# Altium integrated library Analog Devices Data Converters Digital-to-Analog Converters.IntLib: 2231 symbols (part 139 of 181)
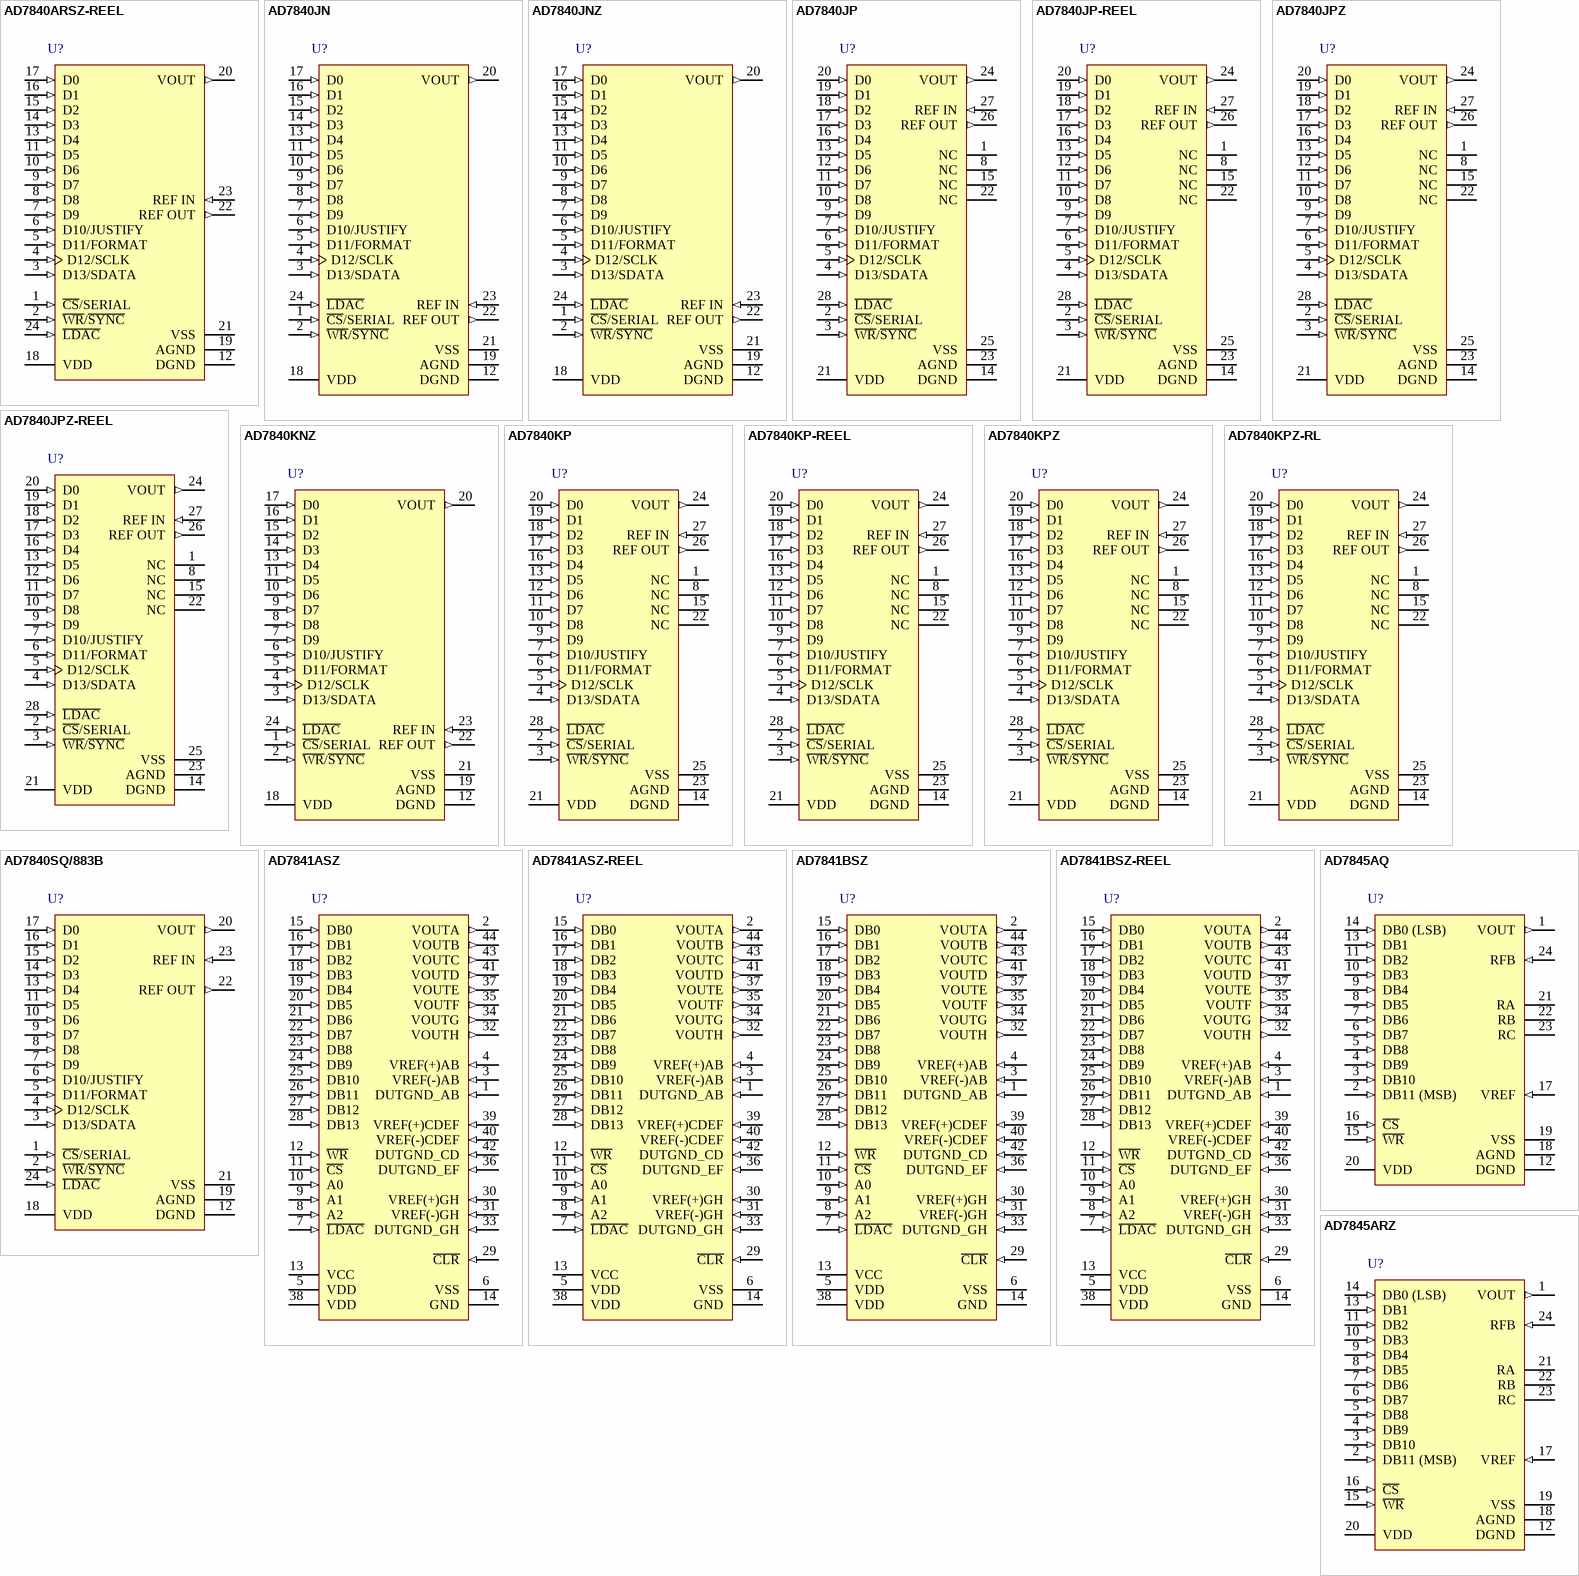
[diagram p252: symbols AD7840ARSZ-REEL to AD7845ARZ]

## AD7840KPZ-RL
designator U?
Single 14-Bit LC2MOS Complete Digital-to-Analog Converter, 0 to +70 degC, P-28, Pb-Free, Reel; Generic Part Number: AD7840; Manufacturer: Analog Devices; PartNumber: AD7840KPZ-RL; # DAC Outputs: 1; Max V+: 5.25V; Op Pwr Diss: 110mW; Resolution (Bits): 14; Settling Time: 2.5µs; Single Supply: No; DatasheetVersion: Rev.B; PackageVersion: 042508-A; PackageReference: P-28; PackageDescription: 28-Lead Plastic Leaded Chip Carrier [PLCC]; Supplier 1: Mouser; Supplier Part Number 1: N/A; Packing: Reel; RoHS: Y; Mounting Technology: Surface Mount; Code_JEDEC: MO-047-AB; ComponentLink1Description: Manufacturer URL; ComponentLink1URL: http://www.analog.com/en/index.html; ComponentLink2Description: Datasheet; ComponentLink2URL: http://www.analog.com/static/imported-files/data_sheets/AD7840.pdf; ComponentLink3Description: Package Specification; ComponentLink3URL: http://www.analog.com/static/imported-files/packages/PKG_PDF/PLCC(P)/P_28.pdf; ComponentLink4Description: Product URL; ComponentLink4URL: http://www.analog.com/en/digital-to-analog-converters/da-converters/ad7840/products/product.html
footprint P-28_N (Leaded Chip Carrier, 28-Leads, Body 11.5x11.5mm, Pitch 1.27mm, IPC Medium Density)
footprint P-28_L (Leaded Chip Carrier, 28-Leads, Body 11.5x11.5mm, Pitch 1.27mm, IPC High Density)
footprint P-28_M (Leaded Chip Carrier, 28-Leads, Body 11.5x11.5mm, Pitch 1.27mm, IPC Low Density)
pins: 1 NC "No Connect.", 2 ~{CS}/SERIAL (in) "Chip Select/Serial Input. When driven with normal logic levels, it is an active low logic input which is used in conjunction with W\R\ to load parallel data to the input latch. For applications where C\S\ is permanently low, (See Datasheet)", 3 ~{WR}/~{SYNC} (in) "Write/Frame Synchronization Input. In the parallel data mode, it is used in conjunction with C\S\ to load parallel data. In the serial mode of operation, this pin functions as a Frame Synchronization pulse with serial data (See Datasheet)", 4 D13/SDATA (in) "Data Bit 13(MSB)/Serial Data. When parallel data is selected, this pin is the D13 input. In serial mode, SDATA is the serial data input which is used in conjunction with S\Y\N\C\ and SCLK to transfer serial data to the (See Datasheet)", 5 D12/SCLK (in) "Data Bit 12/Serial Clock. When parallel data is selected, this pin is the D12 input. In the serial mode, it is the serial clock input. Serial data bits are latched on the falling edge of SCLK when S\Y\N\C\ is low", 6 D11/FORMAT (in) "Data Bit 11/Data Format. When parallel data is selected, this pin is the D11 input. In serial mode, a Logic 1 on this input indicates that the MSB is the first valid bit in the serial data stream. A Logic 0 indicates that (See Datasheet)", 7 D10/JUSTIFY (in) "Data Bit 10/Data Justification. When parallel data is selected, this pin is the D10 input. In serial mode, this input controls the serial data justification (see Table I).", 8 NC "No Connect.", 9 D9 (in) "Data Bit 9. Parallel data input.", 10 D8 (in) "Data Bit 8. Parallel data input.", 11 D7 (in) "Data Bit 7. Parallel data input.", 12 D6 (in) "Data Bit 6. Parallel data input.", 13 D5 (in) "Data Bit 5. Parallel data input.", 14 DGND (power) "Digital Ground. Ground reference for digital circuitry.", 15 NC "No Connect.", 16 D4 (in) "Data Bit 4. Parallel data input.", 17 D3 (in) "Data Bit 3. Parallel data input.", 18 D2 (in) "Data Bit 2. Parallel data input.", 19 D1 (in) "Data Bit 1. Parallel data input.", 20 D0 (in) "Data Bit 0 (LSB). Parallel data input.", 21 VDD (power) "Positive Supply, +5 V +/- 5%.", 22 NC "No Connect.", 23 AGND (power) "Analog Ground. Ground reference for DAC, reference and output buffer amplifier.", 24 VOUT (out) "Analog Output Voltage. This is the buffer amplifier output voltage. Bipolar output range (+/-3 V with REF IN = +3 V).", 25 VSS (power) "Negative Supply Voltage, -5 V +/- 5%.", 26 REF OUT (out) "Voltage Reference Output. The internal 3 V analog reference is provided at this pin. To operate the AD7840 with internal reference, REF OUT should be connected to REF IN. The external load capability of the reference is 500 (See Datasheet)", 27 REF IN (in) "Voltage Reference Input. The reference voltage for the DAC is applied to this pin. It is internally buffered before being applied to the DAC. The nominal reference voltage for correct operation of the AD7840 is 3 V.", 28 ~{LDAC} (in) "Load DAC. Logic Input. A new word is loaded into the DAC latch from the input latch on the falling edge of this signal (see Interface Logic Information section). The AD7840 should be powered-up with L\D\A\C\ high. For (See Datasheet)"

## AD7840SQ/883B
designator U?
Single 14-Bit LC2MOS Complete Digital-to-Analog Converter, -55 to +125 degC, Q-24-2, Tube; Generic Part Number: AD7840; Manufacturer: Analog Devices; PartNumber: AD7840SQ/883B; # DAC Outputs: 1; Max V+: 5.25V; Op Pwr Diss: 110mW; Resolution (Bits): 14; Settling Time: 2.5µs; Single Supply: No; DatasheetVersion: Rev.B; PackageVersion: 081908-A; PackageReference: Q-24-2; PackageDescription: 24-Lead Ceramic Dual In-Line Package [CERDIP] Wide Body; Supplier 1: Mouser; Supplier Part Number 1: 584-AD7840SQ883B; Packing: Tube; RoHS: N; Mounting Technology: Through Hole; ComponentLink1Description: Manufacturer URL; ComponentLink1URL: http://www.analog.com/en/index.html; ComponentLink2Description: Datasheet; ComponentLink2URL: http://www.analog.com/static/imported-files/data_sheets/AD7840.pdf; ComponentLink3Description: Package Specification; ComponentLink3URL: http://www.analog.com/static/imported-files/packages/PKG_PDF/CERDIP(Q)/Q_24_2.pdf; ComponentLink4Description: Product URL; ComponentLink4URL: http://www.analog.com/en/digital-to-analog-converters/da-converters/ad7840/products/product.html
footprint Q-24-2 (DIP, 24-Leads, Row Spacing 15.24mm, Pitch 2.54mm, Body 31.9x14.5mm)
pins: 1 ~{CS}/SERIAL (in) "Chip Select/Serial Input. When driven with normal logic levels, it is an active low logic input which is used in conjunction with W\R\ to load parallel data to the input latch. For applications where C\S\ is permanently low, (See Datasheet)", 2 ~{WR}/~{SYNC} (in) "Write/Frame Synchronization Input. In the parallel data mode, it is used in conjunction with C\S\ to load parallel data. In the serial mode of operation, this pin functions as a Frame Synchronization pulse with serial data (See Datasheet)", 3 D13/SDATA (in) "Data Bit 13(MSB)/Serial Data. When parallel data is selected, this pin is the D13 input. In serial mode, SDATA is the serial data input which is used in conjunction with S\Y\N\C\ and SCLK to transfer serial data to the (See Datasheet)", 4 D12/SCLK (in) "Data Bit 12/Serial Clock. When parallel data is selected, this pin is the D12 input. In the serial mode, it is the serial clock input. Serial data bits are latched on the falling edge of SCLK when S\Y\N\C\ is low.", 5 D11/FORMAT (in) "Data Bit 11/Data Format. When parallel data is selected, this pin is the D11 input. In serial mode, a Logic 1 on this input indicates that the MSB is the first valid bit in the serial data stream. A Logic 0 indicates that (See Datasheet)", 6 D10/JUSTIFY (in) "Data Bit 10/Data Justification. When parallel data is selected, this pin is the D10 input. In serial mode, this input controls the serial data justification (see Table I).", 7 D9 (in) "Data Bit 9. Parallel Data Input.", 8 D8 (in) "Data Bit 8. Parallel Data Input.", 9 D7 (in) "Data Bit 7. Parallel Data Input.", 10 D6 (in) "Data Bit 6. Parallel Data Input.", 11 D5 (in) "Data Bit 5. Parallel Data Input.", 12 DGND (power) "Digital Ground. Ground reference for digital circuitry.", 13 D4 (in) "Data Bit 4. Parallel Data Input.", 14 D3 (in) "Data Bit 3. Parallel Data Input.", 15 D2 (in) "Data Bit 2. Parallel Data Input.", 16 D1 (in) "Data Bit 1. Parallel Data Input.", 17 D0 (in) "Data Bit 0 (LSB). Parallel data input.", 18 VDD (power) "Positive Supply, +5 V +/- 5%.", 19 AGND (power) "Analog Ground. Ground reference for DAC, reference and output buffer amplifier.", 20 VOUT (out) "Analog Output Voltage. This is the buffer amplifier output voltage. Bipolar output range (+/-3 V with REF IN = +3 V).", 21 VSS (power) "Negative Supply Voltage, -5 V +/- 5%.", 22 REF OUT (out) "Voltage Reference Output. The internal 3 V analog reference is provided at this pin. To operate the AD7840 with internal reference, REF OUT should be connected to REF IN. The external load capability of the reference is 500 (See Datasheet)", 23 REF IN (in) "Voltage Reference Input. The reference voltage for the DAC is applied to this pin. It is internally buffered before being applied to the DAC. The nominal reference voltage for correct operation of the AD7840 is 3 V.", 24 ~{LDAC} (in) "Load DAC. Logic Input. A new word is loaded into the DAC latch from the input latch on the falling edge of this signal (see Interface Logic Information section). The AD7840 should be powered-up with L\D\A\C\ high. For (See Datasheet)"

## AD7841ASZ
designator U?
Octal 14-Bit Digital-to-Analog Converter with Parallel Interface, -40 to +85 degC, S-44-2, Pb-Free, Tray; Generic Part Number: AD7841; Manufacturer: Analog Devices; PartNumber: AD7841ASZ; # DAC Outputs: 8; Max V+: 16.5V; Op Pwr Diss: 303mW; Resolution (Bits): 14; Settling Time: 31µs; Single Supply: No; DatasheetVersion: Rev.B; PackageVersion: 041807-A; PackageReference: S-44-2; PackageDescription: 44-Lead Metric Quad Flat Package [MQFP]; Supplier 1: Digi-Key; Supplier Part Number 1: AD7841ASZ-ND; Supplier 2: Newark; Supplier Part Number 2: 59K5638; Supplier 3: Mouser; Supplier Part Number 3: 584-AD7841ASZ; Packing: Tray; RoHS: Y; Mounting Technology: Surface Mount; Code_JEDEC: MO-122-AA-1; ComponentLink1Description: Manufacturer URL; ComponentLink1URL: http://www.analog.com/en/index.html; ComponentLink2Description: Datasheet; ComponentLink2URL: http://www.analog.com/static/imported-files/data_sheets/AD7841.pdf; ComponentLink3Description: Package Specification; ComponentLink3URL: http://www.analog.com/static/imported-files/packages/209183S_44_2.pdf; ComponentLink4Description: Product URL; ComponentLink4URL: http://www.analog.com/en/digital-to-analog-converters/da-converters/ad7841/products/product.html
footprint S-44-2_N (QFP, 44-Leads, Body 10x10mm, Pitch 0.8mm, IPC Medium Density)
footprint S-44-2_L (QFP, 44-Leads, Body 10x10mm, Pitch 0.8mm, IPC High Density)
footprint S-44-2_M (QFP, 44-Leads, Body 10x10mm, Pitch 0.8mm, IPC Low Density)
pins: 1 DUTGND_AB (in) "Device Sense Ground for DACs A and B. VOUTA and VOUTB are referenced to the voltage applied to this pin.", 2 VOUTA (out) "DAC Output.", 3 VREF(-)AB (in) "Reference Inputs for DACs A and B. These reference voltages are referred to GND.", 4 VREF(+)AB (in) "Reference Inputs for DACs A and B. These reference voltages are referred to GND.", 5 VDD (power) "Positive Analog Power Supply; +15 V +/- 10% for specified performance.", 6 VSS (power) "Negative Analog Power Supply; -15 V +/- 10% for specified performance.", 7 ~{LDAC} (in) "Load DAC Logic Input (active low). When this logic input is taken low the contents of the registers are transferred to their respective DAC registers. L\D\A\C\ can be tied permanently low enabling the outputs to be updated (See Datasheet)", 8 A2 (in) "Address input. A0, A1 and A2 are decoded to select one of the eight input registers for a data transfer.", 9 A1 (in) "Address input. A0, A1 and A2 are decoded to select one of the eight input registers for a data transfer.", 10 A0 (in) "Address input. A0, A1 and A2 are decoded to select one of the eight input registers for a data transfer.", 11 ~{CS} (in) "Level-Triggered Chip Select Input (active low). The device is selected when this input is low.", 12 ~{WR} (in) "Level-Triggered Write Input (active low), used in conjunction with C\S\ to write data to the AD7841 data registers. Data is latched into the selected input register on the rising edge of W\R\.", 13 VCC (power) "Logic Power Supply; 5 V +/- 5%.", 14 GND (power) "Ground.", 15 DB0 (in) "Parallel Data Input. The AD7841 can accept a straight 14-bit parallel word on DB0 to DB13 where DB13 is the MSB and DB0 is the LSB.", 16 DB1 (in) "Parallel Data Input. The AD7841 can accept a straight 14-bit parallel word on DB0 to DB13 where DB13 is the MSB and DB0 is the LSB.", 17 DB2 (in) "Parallel Data Input. The AD7841 can accept a straight 14-bit parallel word on DB0 to DB13 where DB13 is the MSB and DB0 is the LSB.", 18 DB3 (in) "Parallel Data Input. The AD7841 can accept a straight 14-bit parallel word on DB0 to DB13 where DB13 is the MSB and DB0 is the LSB.", 19 DB4 (in) "Parallel Data Input. The AD7841 can accept a straight 14-bit parallel word on DB0 to DB13 where DB13 is the MSB and DB0 is the LSB.", 20 DB5 (in) "Parallel Data Input. The AD7841 can accept a straight 14-bit parallel word on DB0 to DB13 where DB13 is the MSB and DB0 is the LSB.", 21 DB6 (in) "Parallel Data Input. The AD7841 can accept a straight 14-bit parallel word on DB0 to DB13 where DB13 is the MSB and DB0 is the LSB.", 22 DB7 (in) "Parallel Data Input. The AD7841 can accept a straight 14-bit parallel word on DB0 to DB13 where DB13 is the MSB and DB0 is the LSB.", 23 DB8 (in) "Parallel Data Input. The AD7841 can accept a straight 14-bit parallel word on DB0 to DB13 where DB13 is the MSB and DB0 is the LSB.", 24 DB9 (in) "Parallel Data Input. The AD7841 can accept a straight 14-bit parallel word on DB0 to DB13 where DB13 is the MSB and DB0 is the LSB.", 25 DB10 (in) "Parallel Data Input. The AD7841 can accept a straight 14-bit parallel word on DB0 to DB13 where DB13 is the MSB and DB0 is the LSB.", 26 DB11 (in) "Parallel Data Input. The AD7841 can accept a straight 14-bit parallel word on DB0 to DB13 where DB13 is the MSB and DB0 is the LSB.", 27 DB12 (in) "Parallel Data Input. The AD7841 can accept a straight 14-bit parallel word on DB0 to DB13 where DB13 is the MSB and DB0 is the LSB.", 28 DB13 (in) "Parallel Data Input. The AD7841 can accept a straight 14-bit parallel word on DB0 to DB13 where DB13 is the MSB and DB0 is the LSB.", 29 ~{CLR} (in) "Asynchronous Clear Input (level sensitive, active low). When this input is low, all analog outputs are switched to the externally set potential on the relevant DUTGND pin. The contents of input registers and DAC registers A (See Datasheet)", 30 VREF(+)GH (in) "Reference Inputs for DACs G and H. These reference voltages are referred to GND.", 31 VREF(-)GH (in) "Reference Inputs for DACs G and H. These reference voltages are referred to GND.", 32 VOUTH (out) "DAC Output.", 33 DUTGND_GH (in) "Device Sense Ground for DACs E and F. VOUTE and VOUTF are referenced to the voltage applied to this pin.", 34 VOUTG (out) "DAC Output.", 35 VOUTF (out) "DAC Output.", 36 DUTGND_EF (in) "Device Sense Ground for DACs E and F. VOUTE and VOUTF are referenced to the voltage applied to this pin.", 37 VOUTE (out) "DAC Output.", 38 VDD (power) "Positive Analog Power Supply; +15 V +/- 10% for specified performance.", 39 VREF(+)CDEF (in) "Reference Inputs for DACs C, D, E and F. These reference voltages are referred to GND.", 40 VREF(-)CDEF (in) "Reference Inputs for DACs C, D, E and F. These reference voltages are referred to GND.", 41 VOUTD (out) "DAC Output.", 42 DUTGND_CD (in) "Device Sense Ground for DACs C and D. VOUTC and VOUTD are referenced to the voltage applied to this pin.", 43 VOUTC (out) "DAC Output.", 44 VOUTB (out) "DAC Output."

## AD7841ASZ-REEL
designator U?
Octal 14-Bit Digital-to-Analog Converter with Parallel Interface, -40 to +85 degC, S-44-2, Pb-Free, Reel; Generic Part Number: AD7841; Manufacturer: Analog Devices; PartNumber: AD7841ASZ-REEL; # DAC Outputs: 8; Max V+: 16.5V; Op Pwr Diss: 303mW; Resolution (Bits): 14; Settling Time: 31µs; Single Supply: No; DatasheetVersion: Rev.B; PackageVersion: 041807-A; PackageReference: S-44-2; PackageDescription: 44-Lead Metric Quad Flat Package [MQFP]; Supplier 1: Digi-Key; Supplier Part Number 1: AD7841ASZ-REEL-ND; Supplier 2: Newark; Supplier Part Number 2: 59K5639; Supplier 3: Mouser; Supplier Part Number 3: 584-AD7841ASZ-R; Packing: Reel; RoHS: Y; Mounting Technology: Surface Mount; Code_JEDEC: MO-122-AA-1; ComponentLink1Description: Manufacturer URL; ComponentLink1URL: http://www.analog.com/en/index.html; ComponentLink2Description: Datasheet; ComponentLink2URL: http://www.analog.com/static/imported-files/data_sheets/AD7841.pdf; ComponentLink3Description: Package Specification; ComponentLink3URL: http://www.analog.com/static/imported-files/packages/209183S_44_2.pdf; ComponentLink4Description: Product URL; ComponentLink4URL: http://www.analog.com/en/digital-to-analog-converters/da-converters/ad7841/products/product.html
footprint S-44-2_N (QFP, 44-Leads, Body 10x10mm, Pitch 0.8mm, IPC Medium Density)
footprint S-44-2_L (QFP, 44-Leads, Body 10x10mm, Pitch 0.8mm, IPC High Density)
footprint S-44-2_M (QFP, 44-Leads, Body 10x10mm, Pitch 0.8mm, IPC Low Density)
pins: 1 DUTGND_AB (in) "Device Sense Ground for DACs A and B. VOUTA and VOUTB are referenced to the voltage applied to this pin.", 2 VOUTA (out) "DAC Output.", 3 VREF(-)AB (in) "Reference Inputs for DACs A and B. These reference voltages are referred to GND.", 4 VREF(+)AB (in) "Reference Inputs for DACs A and B. These reference voltages are referred to GND.", 5 VDD (power) "Positive Analog Power Supply; +15 V +/- 10% for specified performance.", 6 VSS (power) "Negative Analog Power Supply; -15 V +/- 10% for specified performance.", 7 ~{LDAC} (in) "Load DAC Logic Input (active low). When this logic input is taken low the contents of the registers are transferred to their respective DAC registers. L\D\A\C\ can be tied permanently low enabling the outputs to be updated (See Datasheet)", 8 A2 (in) "Address input. A0, A1 and A2 are decoded to select one of the eight input registers for a data transfer.", 9 A1 (in) "Address input. A0, A1 and A2 are decoded to select one of the eight input registers for a data transfer.", 10 A0 (in) "Address input. A0, A1 and A2 are decoded to select one of the eight input registers for a data transfer.", 11 ~{CS} (in) "Level-Triggered Chip Select Input (active low). The device is selected when this input is low.", 12 ~{WR} (in) "Level-Triggered Write Input (active low), used in conjunction with C\S\ to write data to the AD7841 data registers. Data is latched into the selected input register on the rising edge of W\R\.", 13 VCC (power) "Logic Power Supply; 5 V +/- 5%.", 14 GND (power) "Ground.", 15 DB0 (in) "Parallel Data Input. The AD7841 can accept a straight 14-bit parallel word on DB0 to DB13 where DB13 is the MSB and DB0 is the LSB.", 16 DB1 (in) "Parallel Data Input. The AD7841 can accept a straight 14-bit parallel word on DB0 to DB13 where DB13 is the MSB and DB0 is the LSB.", 17 DB2 (in) "Parallel Data Input. The AD7841 can accept a straight 14-bit parallel word on DB0 to DB13 where DB13 is the MSB and DB0 is the LSB.", 18 DB3 (in) "Parallel Data Input. The AD7841 can accept a straight 14-bit parallel word on DB0 to DB13 where DB13 is the MSB and DB0 is the LSB.", 19 DB4 (in) "Parallel Data Input. The AD7841 can accept a straight 14-bit parallel word on DB0 to DB13 where DB13 is the MSB and DB0 is the LSB.", 20 DB5 (in) "Parallel Data Input. The AD7841 can accept a straight 14-bit parallel word on DB0 to DB13 where DB13 is the MSB and DB0 is the LSB.", 21 DB6 (in) "Parallel Data Input. The AD7841 can accept a straight 14-bit parallel word on DB0 to DB13 where DB13 is the MSB and DB0 is the LSB.", 22 DB7 (in) "Parallel Data Input. The AD7841 can accept a straight 14-bit parallel word on DB0 to DB13 where DB13 is the MSB and DB0 is the LSB.", 23 DB8 (in) "Parallel Data Input. The AD7841 can accept a straight 14-bit parallel word on DB0 to DB13 where DB13 is the MSB and DB0 is the LSB.", 24 DB9 (in) "Parallel Data Input. The AD7841 can accept a straight 14-bit parallel word on DB0 to DB13 where DB13 is the MSB and DB0 is the LSB.", 25 DB10 (in) "Parallel Data Input. The AD7841 can accept a straight 14-bit parallel word on DB0 to DB13 where DB13 is the MSB and DB0 is the LSB.", 26 DB11 (in) "Parallel Data Input. The AD7841 can accept a straight 14-bit parallel word on DB0 to DB13 where DB13 is the MSB and DB0 is the LSB.", 27 DB12 (in) "Parallel Data Input. The AD7841 can accept a straight 14-bit parallel word on DB0 to DB13 where DB13 is the MSB and DB0 is the LSB.", 28 DB13 (in) "Parallel Data Input. The AD7841 can accept a straight 14-bit parallel word on DB0 to DB13 where DB13 is the MSB and DB0 is the LSB.", 29 ~{CLR} (in) "Asynchronous Clear Input (level sensitive, active low). When this input is low, all analog outputs are switched to the externally set potential on the relevant DUTGND pin. The contents of input registers and DAC registers A (See Datasheet)", 30 VREF(+)GH (in) "Reference Inputs for DACs G and H. These reference voltages are referred to GND.", 31 VREF(-)GH (in) "Reference Inputs for DACs G and H. These reference voltages are referred to GND.", 32 VOUTH (out) "DAC Output.", 33 DUTGND_GH (in) "Device Sense Ground for DACs E and F. VOUTE and VOUTF are referenced to the voltage applied to this pin.", 34 VOUTG (out) "DAC Output.", 35 VOUTF (out) "DAC Output.", 36 DUTGND_EF (in) "Device Sense Ground for DACs E and F. VOUTE and VOUTF are referenced to the voltage applied to this pin.", 37 VOUTE (out) "DAC Output.", 38 VDD (power) "Positive Analog Power Supply; +15 V +/- 10% for specified performance.", 39 VREF(+)CDEF (in) "Reference Inputs for DACs C, D, E and F. These reference voltages are referred to GND.", 40 VREF(-)CDEF (in) "Reference Inputs for DACs C, D, E and F. These reference voltages are referred to GND.", 41 VOUTD (out) "DAC Output.", 42 DUTGND_CD (in) "Device Sense Ground for DACs C and D. VOUTC and VOUTD are referenced to the voltage applied to this pin.", 43 VOUTC (out) "DAC Output.", 44 VOUTB (out) "DAC Output."

## AD7841BSZ
designator U?
Octal 14-Bit Digital-to-Analog Converter with Parallel Interface, -40 to +85 degC, S-44-2, Pb-Free, Tray; Generic Part Number: AD7841; Manufacturer: Analog Devices; PartNumber: AD7841BSZ; # DAC Outputs: 8; Max V+: 16.5V; Op Pwr Diss: 303mW; Resolution (Bits): 14; Settling Time: 31µs; Single Supply: No; DatasheetVersion: Rev.B; PackageVersion: 041807-A; PackageReference: S-44-2; PackageDescription: 44-Lead Metric Quad Flat Package [MQFP]; Supplier 1: Digi-Key; Supplier Part Number 1: AD7841BSZ-ND; Supplier 2: Farnell; Supplier Part Number 2: 1438928; Supplier 3: Newark; Supplier Part Number 3: 59K5640; Supplier 4: Mouser; Supplier Part Number 4: 584-AD7841BSZ; Packing: Tray; RoHS: Y; Mounting Technology: Surface Mount; Code_JEDEC: MO-122-AA-1; ComponentLink1Description: Manufacturer URL; ComponentLink1URL: http://www.analog.com/en/index.html; ComponentLink2Description: Datasheet; ComponentLink2URL: http://www.analog.com/static/imported-files/data_sheets/AD7841.pdf; ComponentLink3Description: Package Specification; ComponentLink3URL: http://www.analog.com/static/imported-files/packages/209183S_44_2.pdf; ComponentLink4Description: Product URL; ComponentLink4URL: http://www.analog.com/en/digital-to-analog-converters/da-converters/ad7841/products/product.html
footprint S-44-2_N (QFP, 44-Leads, Body 10x10mm, Pitch 0.8mm, IPC Medium Density)
footprint S-44-2_L (QFP, 44-Leads, Body 10x10mm, Pitch 0.8mm, IPC High Density)
footprint S-44-2_M (QFP, 44-Leads, Body 10x10mm, Pitch 0.8mm, IPC Low Density)
pins: 1 DUTGND_AB (in) "Device Sense Ground for DACs A and B. VOUTA and VOUTB are referenced to the voltage applied to this pin.", 2 VOUTA (out) "DAC Output.", 3 VREF(-)AB (in) "Reference Inputs for DACs A and B. These reference voltages are referred to GND.", 4 VREF(+)AB (in) "Reference Inputs for DACs A and B. These reference voltages are referred to GND.", 5 VDD (power) "Positive Analog Power Supply; +15 V +/- 10% for specified performance.", 6 VSS (power) "Negative Analog Power Supply; -15 V +/- 10% for specified performance.", 7 ~{LDAC} (in) "Load DAC Logic Input (active low). When this logic input is taken low the contents of the registers are transferred to their respective DAC registers. L\D\A\C\ can be tied permanently low enabling the outputs to be updated (See Datasheet)", 8 A2 (in) "Address input. A0, A1 and A2 are decoded to select one of the eight input registers for a data transfer.", 9 A1 (in) "Address input. A0, A1 and A2 are decoded to select one of the eight input registers for a data transfer.", 10 A0 (in) "Address input. A0, A1 and A2 are decoded to select one of the eight input registers for a data transfer.", 11 ~{CS} (in) "Level-Triggered Chip Select Input (active low). The device is selected when this input is low.", 12 ~{WR} (in) "Level-Triggered Write Input (active low), used in conjunction with C\S\ to write data to the AD7841 data registers. Data is latched into the selected input register on the rising edge of W\R\.", 13 VCC (power) "Logic Power Supply; 5 V +/- 5%.", 14 GND (power) "Ground.", 15 DB0 (in) "Parallel Data Input. The AD7841 can accept a straight 14-bit parallel word on DB0 to DB13 where DB13 is the MSB and DB0 is the LSB.", 16 DB1 (in) "Parallel Data Input. The AD7841 can accept a straight 14-bit parallel word on DB0 to DB13 where DB13 is the MSB and DB0 is the LSB.", 17 DB2 (in) "Parallel Data Input. The AD7841 can accept a straight 14-bit parallel word on DB0 to DB13 where DB13 is the MSB and DB0 is the LSB.", 18 DB3 (in) "Parallel Data Input. The AD7841 can accept a straight 14-bit parallel word on DB0 to DB13 where DB13 is the MSB and DB0 is the LSB.", 19 DB4 (in) "Parallel Data Input. The AD7841 can accept a straight 14-bit parallel word on DB0 to DB13 where DB13 is the MSB and DB0 is the LSB.", 20 DB5 (in) "Parallel Data Input. The AD7841 can accept a straight 14-bit parallel word on DB0 to DB13 where DB13 is the MSB and DB0 is the LSB.", 21 DB6 (in) "Parallel Data Input. The AD7841 can accept a straight 14-bit parallel word on DB0 to DB13 where DB13 is the MSB and DB0 is the LSB.", 22 DB7 (in) "Parallel Data Input. The AD7841 can accept a straight 14-bit parallel word on DB0 to DB13 where DB13 is the MSB and DB0 is the LSB.", 23 DB8 (in) "Parallel Data Input. The AD7841 can accept a straight 14-bit parallel word on DB0 to DB13 where DB13 is the MSB and DB0 is the LSB.", 24 DB9 (in) "Parallel Data Input. The AD7841 can accept a straight 14-bit parallel word on DB0 to DB13 where DB13 is the MSB and DB0 is the LSB.", 25 DB10 (in) "Parallel Data Input. The AD7841 can accept a straight 14-bit parallel word on DB0 to DB13 where DB13 is the MSB and DB0 is the LSB.", 26 DB11 (in) "Parallel Data Input. The AD7841 can accept a straight 14-bit parallel word on DB0 to DB13 where DB13 is the MSB and DB0 is the LSB.", 27 DB12 (in) "Parallel Data Input. The AD7841 can accept a straight 14-bit parallel word on DB0 to DB13 where DB13 is the MSB and DB0 is the LSB.", 28 DB13 (in) "Parallel Data Input. The AD7841 can accept a straight 14-bit parallel word on DB0 to DB13 where DB13 is the MSB and DB0 is the LSB.", 29 ~{CLR} (in) "Asynchronous Clear Input (level sensitive, active low). When this input is low, all analog outputs are switched to the externally set potential on the relevant DUTGND pin. The contents of input registers and DAC registers A (See Datasheet)", 30 VREF(+)GH (in) "Reference Inputs for DACs G and H. These reference voltages are referred to GND.", 31 VREF(-)GH (in) "Reference Inputs for DACs G and H. These reference voltages are referred to GND.", 32 VOUTH (out) "DAC Output.", 33 DUTGND_GH (in) "Device Sense Ground for DACs E and F. VOUTE and VOUTF are referenced to the voltage applied to this pin.", 34 VOUTG (out) "DAC Output.", 35 VOUTF (out) "DAC Output.", 36 DUTGND_EF (in) "Device Sense Ground for DACs E and F. VOUTE and VOUTF are referenced to the voltage applied to this pin.", 37 VOUTE (out) "DAC Output.", 38 VDD (power) "Positive Analog Power Supply; +15 V +/- 10% for specified performance.", 39 VREF(+)CDEF (in) "Reference Inputs for DACs C, D, E and F. These reference voltages are referred to GND.", 40 VREF(-)CDEF (in) "Reference Inputs for DACs C, D, E and F. These reference voltages are referred to GND.", 41 VOUTD (out) "DAC Output.", 42 DUTGND_CD (in) "Device Sense Ground for DACs C and D. VOUTC and VOUTD are referenced to the voltage applied to this pin.", 43 VOUTC (out) "DAC Output.", 44 VOUTB (out) "DAC Output."

## AD7841BSZ-REEL
designator U?
Octal 14-Bit Digital-to-Analog Converter with Parallel Interface, -40 to +85 degC, S-44-2, Pb-Free, Reel; Generic Part Number: AD7841; Manufacturer: Analog Devices; PartNumber: AD7841BSZ-REEL; # DAC Outputs: 8; Max V+: 16.5V; Op Pwr Diss: 303mW; Resolution (Bits): 14; Settling Time: 31µs; Single Supply: No; DatasheetVersion: Rev.B; PackageVersion: 041807-A; PackageReference: S-44-2; PackageDescription: 44-Lead Metric Quad Flat Package [MQFP]; Supplier 1: Digi-Key; Supplier Part Number 1: AD7841BSZ-REEL-ND; Supplier 2: Mouser; Supplier Part Number 2: 584-AD7841BSZ-R; Packing: Reel; RoHS: Y; Mounting Technology: Surface Mount; Code_JEDEC: MO-122-AA-1; ComponentLink1Description: Manufacturer URL; ComponentLink1URL: http://www.analog.com/en/index.html; ComponentLink2Description: Datasheet; ComponentLink2URL: http://www.analog.com/static/imported-files/data_sheets/AD7841.pdf; ComponentLink3Description: Package Specification; ComponentLink3URL: http://www.analog.com/static/imported-files/packages/209183S_44_2.pdf; ComponentLink4Description: Product URL; ComponentLink4URL: http://www.analog.com/en/digital-to-analog-converters/da-converters/ad7841/products/product.html
footprint S-44-2_N (QFP, 44-Leads, Body 10x10mm, Pitch 0.8mm, IPC Medium Density)
footprint S-44-2_L (QFP, 44-Leads, Body 10x10mm, Pitch 0.8mm, IPC High Density)
footprint S-44-2_M (QFP, 44-Leads, Body 10x10mm, Pitch 0.8mm, IPC Low Density)
pins: 1 DUTGND_AB (in) "Device Sense Ground for DACs A and B. VOUTA and VOUTB are referenced to the voltage applied to this pin.", 2 VOUTA (out) "DAC Output.", 3 VREF(-)AB (in) "Reference Inputs for DACs A and B. These reference voltages are referred to GND.", 4 VREF(+)AB (in) "Reference Inputs for DACs A and B. These reference voltages are referred to GND.", 5 VDD (power) "Positive Analog Power Supply; +15 V +/- 10% for specified performance.", 6 VSS (power) "Negative Analog Power Supply; -15 V +/- 10% for specified performance.", 7 ~{LDAC} (in) "Load DAC Logic Input (active low). When this logic input is taken low the contents of the registers are transferred to their respective DAC registers. L\D\A\C\ can be tied permanently low enabling the outputs to be updated (See Datasheet)", 8 A2 (in) "Address input. A0, A1 and A2 are decoded to select one of the eight input registers for a data transfer.", 9 A1 (in) "Address input. A0, A1 and A2 are decoded to select one of the eight input registers for a data transfer.", 10 A0 (in) "Address input. A0, A1 and A2 are decoded to select one of the eight input registers for a data transfer.", 11 ~{CS} (in) "Level-Triggered Chip Select Input (active low). The device is selected when this input is low.", 12 ~{WR} (in) "Level-Triggered Write Input (active low), used in conjunction with C\S\ to write data to the AD7841 data registers. Data is latched into the selected input register on the rising edge of W\R\.", 13 VCC (power) "Logic Power Supply; 5 V +/- 5%.", 14 GND (power) "Ground.", 15 DB0 (in) "Parallel Data Input. The AD7841 can accept a straight 14-bit parallel word on DB0 to DB13 where DB13 is the MSB and DB0 is the LSB.", 16 DB1 (in) "Parallel Data Input. The AD7841 can accept a straight 14-bit parallel word on DB0 to DB13 where DB13 is the MSB and DB0 is the LSB.", 17 DB2 (in) "Parallel Data Input. The AD7841 can accept a straight 14-bit parallel word on DB0 to DB13 where DB13 is the MSB and DB0 is the LSB.", 18 DB3 (in) "Parallel Data Input. The AD7841 can accept a straight 14-bit parallel word on DB0 to DB13 where DB13 is the MSB and DB0 is the LSB.", 19 DB4 (in) "Parallel Data Input. The AD7841 can accept a straight 14-bit parallel word on DB0 to DB13 where DB13 is the MSB and DB0 is the LSB.", 20 DB5 (in) "Parallel Data Input. The AD7841 can accept a straight 14-bit parallel word on DB0 to DB13 where DB13 is the MSB and DB0 is the LSB.", 21 DB6 (in) "Parallel Data Input. The AD7841 can accept a straight 14-bit parallel word on DB0 to DB13 where DB13 is the MSB and DB0 is the LSB.", 22 DB7 (in) "Parallel Data Input. The AD7841 can accept a straight 14-bit parallel word on DB0 to DB13 where DB13 is the MSB and DB0 is the LSB.", 23 DB8 (in) "Parallel Data Input. The AD7841 can accept a straight 14-bit parallel word on DB0 to DB13 where DB13 is the MSB and DB0 is the LSB.", 24 DB9 (in) "Parallel Data Input. The AD7841 can accept a straight 14-bit parallel word on DB0 to DB13 where DB13 is the MSB and DB0 is the LSB.", 25 DB10 (in) "Parallel Data Input. The AD7841 can accept a straight 14-bit parallel word on DB0 to DB13 where DB13 is the MSB and DB0 is the LSB.", 26 DB11 (in) "Parallel Data Input. The AD7841 can accept a straight 14-bit parallel word on DB0 to DB13 where DB13 is the MSB and DB0 is the LSB.", 27 DB12 (in) "Parallel Data Input. The AD7841 can accept a straight 14-bit parallel word on DB0 to DB13 where DB13 is the MSB and DB0 is the LSB.", 28 DB13 (in) "Parallel Data Input. The AD7841 can accept a straight 14-bit parallel word on DB0 to DB13 where DB13 is the MSB and DB0 is the LSB.", 29 ~{CLR} (in) "Asynchronous Clear Input (level sensitive, active low). When this input is low, all analog outputs are switched to the externally set potential on the relevant DUTGND pin. The contents of input registers and DAC registers A (See Datasheet)", 30 VREF(+)GH (in) "Reference Inputs for DACs G and H. These reference voltages are referred to GND.", 31 VREF(-)GH (in) "Reference Inputs for DACs G and H. These reference voltages are referred to GND.", 32 VOUTH (out) "DAC Output.", 33 DUTGND_GH (in) "Device Sense Ground for DACs E and F. VOUTE and VOUTF are referenced to the voltage applied to this pin.", 34 VOUTG (out) "DAC Output.", 35 VOUTF (out) "DAC Output.", 36 DUTGND_EF (in) "Device Sense Ground for DACs E and F. VOUTE and VOUTF are referenced to the voltage applied to this pin.", 37 VOUTE (out) "DAC Output.", 38 VDD (power) "Positive Analog Power Supply; +15 V +/- 10% for specified performance.", 39 VREF(+)CDEF (in) "Reference Inputs for DACs C, D, E and F. These reference voltages are referred to GND.", 40 VREF(-)CDEF (in) "Reference Inputs for DACs C, D, E and F. These reference voltages are referred to GND.", 41 VOUTD (out) "DAC Output.", 42 DUTGND_CD (in) "Device Sense Ground for DACs C and D. VOUTC and VOUTD are referenced to the voltage applied to this pin.", 43 VOUTC (out) "DAC Output.", 44 VOUTB (out) "DAC Output."

## AD7845AQ
designator U?
Single 12-Bit LC2MOS Complete Digital-to-Analog Converter, -40 to +85 degC, Q-24, Tube; Generic Part Number: AD7845; Manufacturer: Analog Devices; PartNumber: AD7845AQ; # DAC Outputs: 1; Max V+: 15.75V; Op Pwr Diss: 150mW; Resolution (Bits): 12; Settling Time: 5µs; Single Supply: No; DatasheetVersion: Rev.B; PackageVersion: 2000; PackageReference: Q-24; PackageDescription: 24-Lead Ceramic Dual In-Line Package [CERDIP]; Supplier 1: Digi-Key; Supplier Part Number 1: AD7845AQ-ND; Supplier 2: Mouser; Supplier Part Number 2: 584-AD7845AQ; Packing: Tube; RoHS: N; Mounting Technology: Through Hole; ComponentLink1Description: Manufacturer URL; ComponentLink1URL: http://www.analog.com/en/index.html; ComponentLink2Description: Datasheet; ComponentLink2URL: http://www.analog.com/static/imported-files/data_sheets/AD7845.pdf; ComponentLink3Description: Package Specification; ComponentLink3URL: http://www.analog.com/static/imported-files/data_sheets/AD7837_7847.pdf; ComponentLink4Description: Product URL; ComponentLink4URL: http://www.analog.com/en/digital-to-analog-converters/da-converters/ad7845/products/product.html
footprint Q-24 (DIP, 24-Leads, Row Spacing 7.62mm, Pitch 2.54mm, Body 31.9x6.7mm)
pins: 1 VOUT (out) "Voltage Output Terminal", 2 DB11 (MSB) (in) "Data Bit 11 (MSB)", 3 DB10 (in) "Data Bit 10", 4 DB9 (in) "Data Bit 9", 5 DB8 (in) "Data Bit 8", 6 DB7 (in) "Data Bit 7", 7 DB6 (in) "Data Bit 6", 8 DB5 (in) "Data Bit 5", 9 DB4 (in) "Data Bit 4", 10 DB3 (in) "Data Bit 3", 11 DB2 (in) "Data Bit 2", 12 DGND (power) "Digital Ground. The metal lid on the ceramic package is connected to this pin", 13 DB1 (in) "Data Bit 1", 14 DB0 (LSB) (in) "Data Bit 0 (LSB)", 15 ~{WR} (in) "Write Input. Active low", 16 ~{CS} (in) "Chip Select Input. Active low", 17 VREF (in) "Reference Input Voltage which can be an ac or dc signal", 18 AGND (power) "Analog Ground. This is the reference point for external analog circuitry", 19 VSS (power) "Negative power supply for the output amplifier (nominal -12 V to +15 V)", 20 VDD (power) "Positive power supply (nominal +12 V to +15 V)", 21 RA "Application resistor. RA = 4 RFB", 22 RB "Application resistor. RB = 2 RFB", 23 RC "Application resistor. RC = 2 RFB", 24 RFB (in) "Feedback resistor in the DAC. For normal operation this is connected to VOUT"

## AD7845ARZ
designator U?
Single 12-Bit LC2MOS Complete Digital-to-Analog Converter, 0 to +70 degC, RW-24, Pb-Free, Tube; Generic Part Number: AD7845; Manufacturer: Analog Devices; PartNumber: AD7845ARZ; # DAC Outputs: 1; Max V+: 15.75V; Op Pwr Diss: 150mW; Resolution (Bits): 12; Settling Time: 5µs; Single Supply: No; DatasheetVersion: Rev.B; PackageVersion: 060706-A; PackageReference: RW-24; PackageDescription: 24-Lead Standard Small Outline Package [SOIC_W]; Supplier 1: Digi-Key; Supplier Part Number 1: AD7845ARZ-ND; Supplier 2: Mouser; Supplier Part Number 2: 584-AD7845ARZ; Packing: Tube; RoHS: Y; Mounting Technology: Surface Mount; Code_JEDEC: MS-013-AD; ComponentLink1Description: Manufacturer URL; ComponentLink1URL: http://www.analog.com/en/index.html; ComponentLink2Description: Datasheet; ComponentLink2URL: http://www.analog.com/static/imported-files/data_sheets/AD7845.pdf; ComponentLink3Description: Package Specification; ComponentLink3URL: http://www.analog.com/static/imported-files/packages/33665150946139RW_24.pdf; ComponentLink4Description: Product URL; ComponentLink4URL: http://www.analog.com/en/digital-to-analog-converters/da-converters/ad7845/products/product.html
footprint RW-24_N (SOIC, 24-Leads, Body 15.4x7.5mm, Pitch 1.27mm, IPC Medium Density)
footprint RW-24_L (SOIC, 24-Leads, Body 15.4x7.5mm, Pitch 1.27mm, IPC High Density)
footprint RW-24_M (SOIC, 24-Leads, Body 15.4x7.5mm, Pitch 1.27mm, IPC Low Density)
pins: 1 VOUT (out) "Voltage Output Terminal", 2 DB11 (MSB) (in) "Data Bit 11 (MSB)", 3 DB10 (in) "Data Bit 10", 4 DB9 (in) "Data Bit 9", 5 DB8 (in) "Data Bit 8", 6 DB7 (in) "Data Bit 7", 7 DB6 (in) "Data Bit 6", 8 DB5 (in) "Data Bit 5", 9 DB4 (in) "Data Bit 4", 10 DB3 (in) "Data Bit 3", 11 DB2 (in) "Data Bit 2", 12 DGND (power) "Digital Ground. The metal lid on the ceramic package is connected to this pin", 13 DB1 (in) "Data Bit 1", 14 DB0 (LSB) (in) "Data Bit 0 (LSB)", 15 ~{WR} (in) "Write Input. Active low", 16 ~{CS} (in) "Chip Select Input. Active low", 17 VREF (in) "Reference Input Voltage which can be an ac or dc signal", 18 AGND (power) "Analog Ground. This is the reference point for external analog circuitry", 19 VSS (power) "Negative power supply for the output amplifier (nominal -12 V to +15 V)", 20 VDD (power) "Positive power supply (nominal +12 V to +15 V)", 21 RA "Application resistor. RA = 4 RFB", 22 RB "Application resistor. RB = 2 RFB", 23 RC "Application resistor. RC = 2 RFB", 24 RFB (in) "Feedback resistor in the DAC. For normal operation this is connected to VOUT"

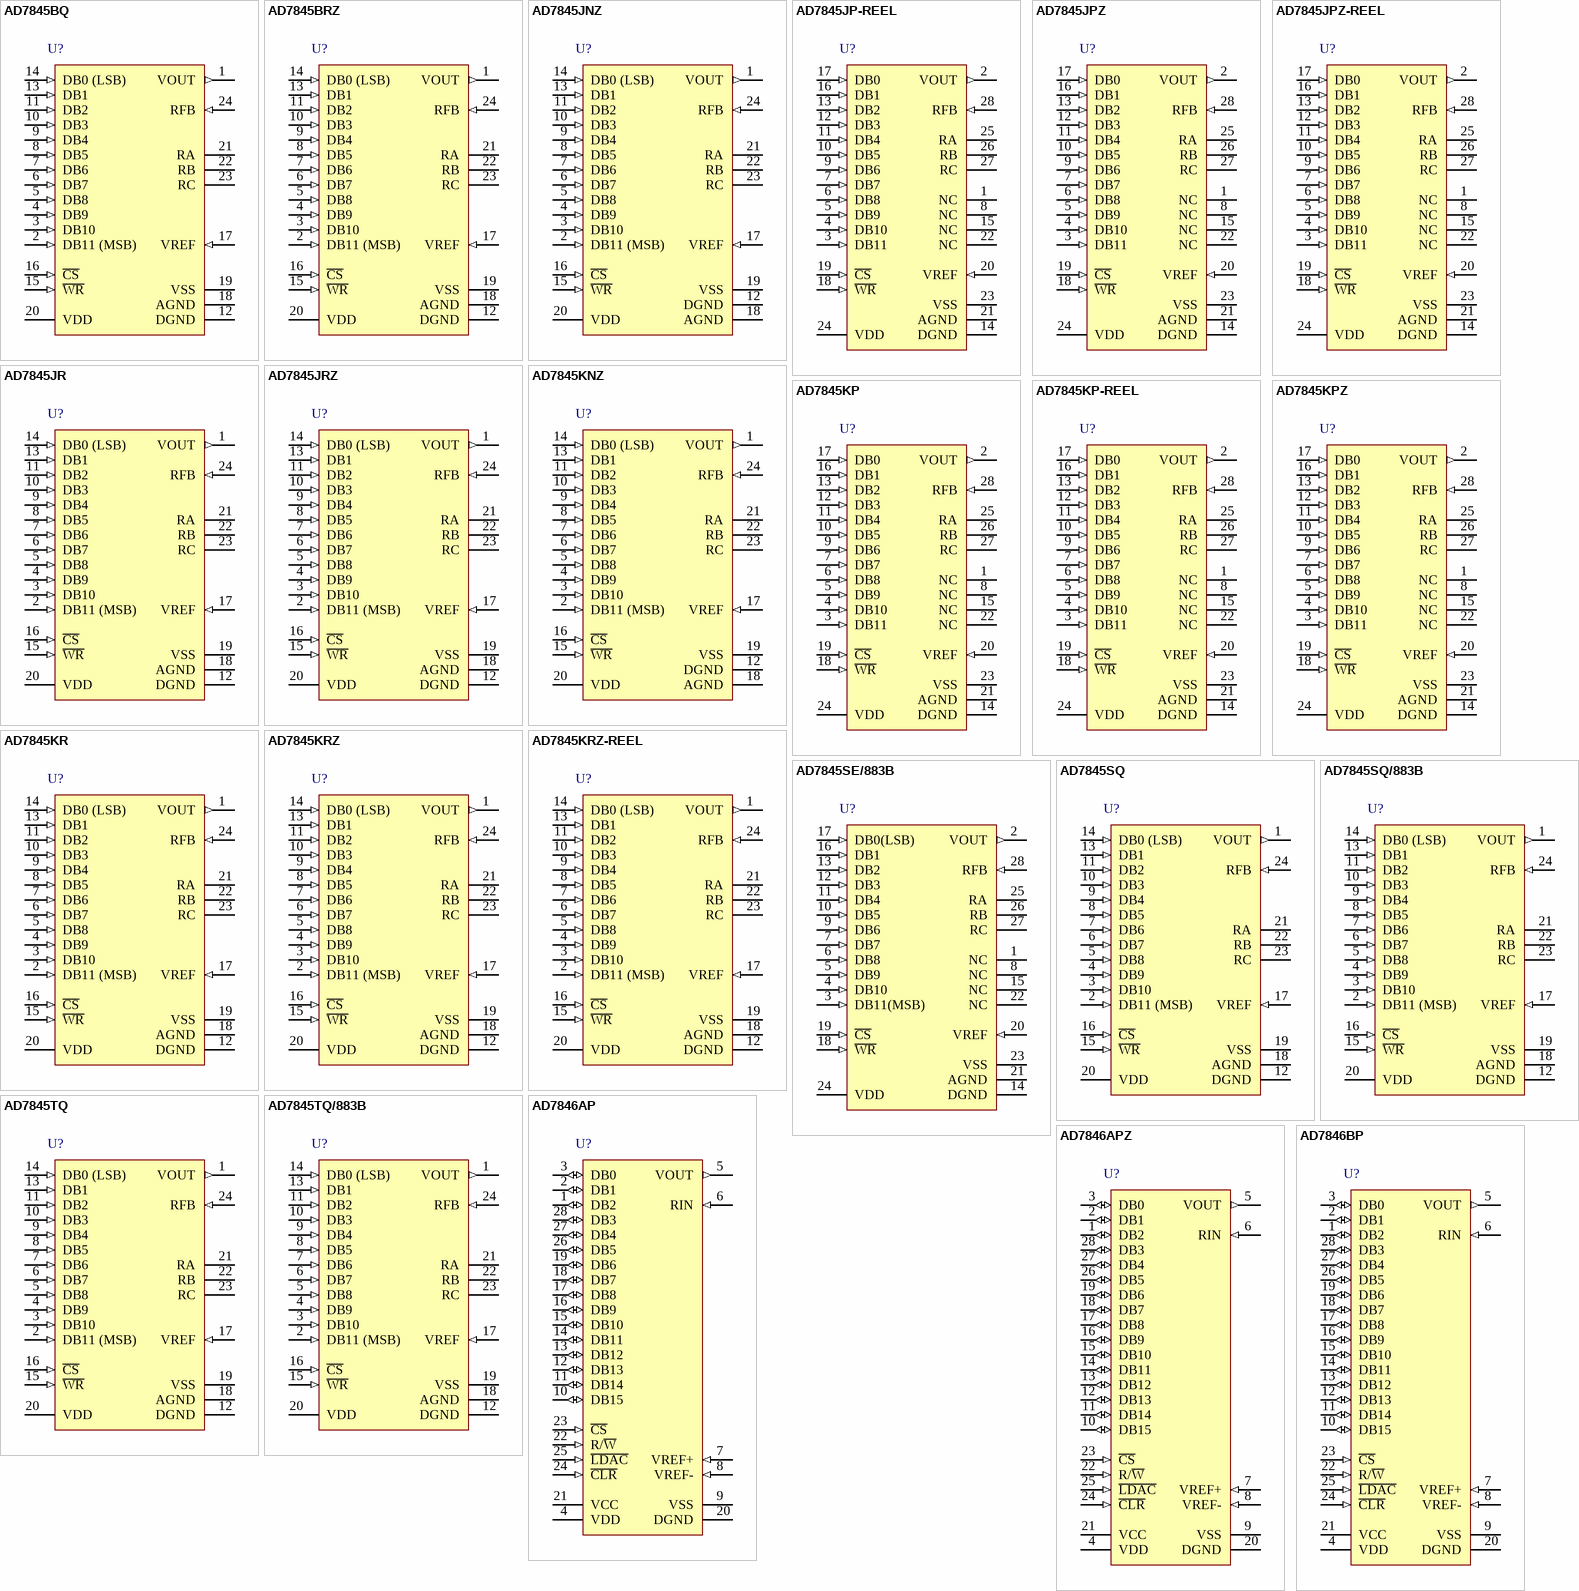
[diagram p77: symbols AD7845BQ to AD7846BP]

## AD7845BQ
designator U?
Single 12-Bit LC2MOS Complete Digital-to-Analog Converter, -40 to +85 degC, Q-24-1, Tube; Generic Part Number: AD7845; Manufacturer: Analog Devices; PartNumber: AD7845BQ; # DAC Outputs: 1; Max V+: 15.75V; Op Pwr Diss: 150mW; Resolution (Bits): 12; Settling Time: 5µs; Single Supply: No; DatasheetVersion: Rev.B; PackageVersion: 100808-A; PackageReference: Q-24-1; PackageDescription: 24-Lead Ceramic Dual In-Line Package [CERDIP]; Supplier 1: Digi-Key; Supplier Part Number 1: AD7845BQ-ND; Supplier 2: Newark; Supplier Part Number 2: 05F7592; Supplier 3: Mouser; Supplier Part Number 3: 584-AD7845BQ; Packing: Tube; RoHS: N; Mounting Technology: Through Hole; ComponentLink1Description: Manufacturer URL; ComponentLink1URL: http://www.analog.com/en/index.html; ComponentLink2Description: Datasheet; ComponentLink2URL: http://www.analog.com/static/imported-files/data_sheets/AD7845.pdf; ComponentLink3Description: Package Specification; ComponentLink3URL: http://www.analog.com/static/imported-files/packages/PKG_PDF/CERDIP(Q)/Q_24_1.pdf; ComponentLink4Description: Product URL; ComponentLink4URL: http://www.analog.com/en/digital-to-analog-converters/da-converters/ad7845/products/product.html
footprint Q-24-1 (DIP, 24-Leads, Row Spacing 7.62mm, Pitch 2.54mm, Body 31.9x6.7mm)
pins: 1 VOUT (out) "Voltage Output Terminal", 2 DB11 (MSB) (in) "Data Bit 11 (MSB)", 3 DB10 (in) "Data Bit 10", 4 DB9 (in) "Data Bit 9", 5 DB8 (in) "Data Bit 8", 6 DB7 (in) "Data Bit 7", 7 DB6 (in) "Data Bit 6", 8 DB5 (in) "Data Bit 5", 9 DB4 (in) "Data Bit 4", 10 DB3 (in) "Data Bit 3", 11 DB2 (in) "Data Bit 2", 12 DGND (power) "Digital Ground. The metal lid on the ceramic package is connected to this pin", 13 DB1 (in) "Data Bit 1", 14 DB0 (LSB) (in) "Data Bit 0 (LSB)", 15 ~{WR} (in) "Write Input. Active low", 16 ~{CS} (in) "Chip Select Input. Active low", 17 VREF (in) "Reference Input Voltage which can be an ac or dc signal", 18 AGND (power) "Analog Ground. This is the reference point for external analog circuitry", 19 VSS (power) "Negative power supply for the output amplifier (nominal -12 V to +15 V)", 20 VDD (power) "Positive power supply (nominal +12 V to +15 V)", 21 RA "Application resistor. RA = 4 RFB", 22 RB "Application resistor. RB = 2 RFB", 23 RC "Application resistor. RC = 2 RFB", 24 RFB (in) "Feedback resistor in the DAC. For normal operation this is connected to VOUT"

## AD7845BRZ
designator U?
Single 12-Bit LC2MOS Complete Digital-to-Analog Converter, 0 to +70 degC, RW-24, Pb-Free, Tube; Generic Part Number: AD7845; Manufacturer: Analog Devices; PartNumber: AD7845BRZ; # DAC Outputs: 1; Max V+: 15.75V; Op Pwr Diss: 150mW; Resolution (Bits): 12; Settling Time: 5µs; Single Supply: No; DatasheetVersion: Rev.B; PackageVersion: 060706-A; PackageReference: RW-24; PackageDescription: 24-Lead Standard Small Outline Package [SOIC_W]; Supplier 1: Digi-Key; Supplier Part Number 1: AD7845BRZ-ND; Supplier 2: Mouser; Supplier Part Number 2: 584-AD7845BRZ; Packing: Tube; RoHS: Y; Mounting Technology: Surface Mount; Code_JEDEC: MS-013-AD; ComponentLink1Description: Manufacturer URL; ComponentLink1URL: http://www.analog.com/en/index.html; ComponentLink2Description: Datasheet; ComponentLink2URL: http://www.analog.com/static/imported-files/data_sheets/AD7845.pdf; ComponentLink3Description: Package Specification; ComponentLink3URL: http://www.analog.com/static/imported-files/packages/33665150946139RW_24.pdf; ComponentLink4Description: Product URL; ComponentLink4URL: http://www.analog.com/en/digital-to-analog-converters/da-converters/ad7845/products/product.html
footprint RW-24_N (SOIC, 24-Leads, Body 15.4x7.5mm, Pitch 1.27mm, IPC Medium Density)
footprint RW-24_L (SOIC, 24-Leads, Body 15.4x7.5mm, Pitch 1.27mm, IPC High Density)
footprint RW-24_M (SOIC, 24-Leads, Body 15.4x7.5mm, Pitch 1.27mm, IPC Low Density)
pins: 1 VOUT (out) "Voltage Output Terminal", 2 DB11 (MSB) (in) "Data Bit 11 (MSB)", 3 DB10 (in) "Data Bit 10", 4 DB9 (in) "Data Bit 9", 5 DB8 (in) "Data Bit 8", 6 DB7 (in) "Data Bit 7", 7 DB6 (in) "Data Bit 6", 8 DB5 (in) "Data Bit 5", 9 DB4 (in) "Data Bit 4", 10 DB3 (in) "Data Bit 3", 11 DB2 (in) "Data Bit 2", 12 DGND (power) "Digital Ground. The metal lid on the ceramic package is connected to this pin", 13 DB1 (in) "Data Bit 1", 14 DB0 (LSB) (in) "Data Bit 0 (LSB)", 15 ~{WR} (in) "Write Input. Active low", 16 ~{CS} (in) "Chip Select Input. Active low", 17 VREF (in) "Reference Input Voltage which can be an ac or dc signal", 18 AGND (power) "Analog Ground. This is the reference point for external analog circuitry", 19 VSS (power) "Negative power supply for the output amplifier (nominal -12 V to +15 V)", 20 VDD (power) "Positive power supply (nominal +12 V to +15 V)", 21 RA "Application resistor. RA = 4 RFB", 22 RB "Application resistor. RB = 2 RFB", 23 RC "Application resistor. RC = 2 RFB", 24 RFB (in) "Feedback resistor in the DAC. For normal operation this is connected to VOUT"

## AD7845JNZ
designator U?
Single 12-Bit LC2MOS Complete Digital-to-Analog Converter, 0 to +70 degC, N-24-1, Pb-Free, Tube; Generic Part Number: AD7845; Manufacturer: Analog Devices; PartNumber: AD7845JNZ; # DAC Outputs: 1; Max V+: 15.75V; Op Pwr Diss: 150mW; Resolution (Bits): 12; Settling Time: 5µs; Single Supply: No; DatasheetVersion: Rev.B; PackageVersion: 071006-A; PackageReference: N-24-1; PackageDescription: 24-Lead Plastic Dual In-Line Package [PDIP] Narrow Body; Supplier 1: Digi-Key; Supplier Part Number 1: AD7845JNZ-ND; Supplier 2: Farnell; Supplier Part Number 2: 9604588; Supplier 3: Newark; Supplier Part Number 3: 31M4385; Supplier 4: Mouser; Supplier Part Number 4: 584-AD7845JNZ; Packing: Tube; RoHS: Y; Mounting Technology: Through Hole; Code_JEDEC: MS-001; ComponentLink1Description: Manufacturer URL; ComponentLink1URL: http://www.analog.com/en/index.html; ComponentLink2Description: Datasheet; ComponentLink2URL: http://www.analog.com/static/imported-files/data_sheets/AD7845.pdf; ComponentLink3Description: Package Specification; ComponentLink3URL: http://www.analog.com/static/imported-files/packages/50726455539629N_24_1.pdf; ComponentLink4Description: Product URL; ComponentLink4URL: http://www.analog.com/en/digital-to-analog-converters/da-converters/ad7845/products/product.html
footprint N-24-1 (DIP, 24-Leads, Row Spacing 7.62mm, Pitch 2.54mm, Body 31.9x6.6mm)
pins: 1 VOUT (out) "Voltage Output Terminal", 2 DB11 (MSB) (in) "Data Bit 11 (MSB)", 3 DB10 (in) "Data Bit 10", 4 DB9 (in) "Data Bit 9", 5 DB8 (in) "Data Bit 8", 6 DB7 (in) "Data Bit 7", 7 DB6 (in) "Data Bit 6", 8 DB5 (in) "Data Bit 5", 9 DB4 (in) "Data Bit 4", 10 DB3 (in) "Data Bit 3", 11 DB2 (in) "Data Bit 2", 12 DGND (power) "Digital Ground. The metal lid on the ceramic package is connected to this pin", 13 DB1 (in) "Data Bit 1", 14 DB0 (LSB) (in) "Data Bit 0 (LSB)", 15 ~{WR} (in) "Write Input. Active low", 16 ~{CS} (in) "Chip Select Input. Active low", 17 VREF (in) "Reference Input Voltage which can be an ac or dc signal", 18 AGND (power) "Analog Ground. This is the reference point for external analog circuitry", 19 VSS (power) "Negative power supply for the output amplifier (nominal -12 V to +15 V)", 20 VDD (power) "Positive power supply (nominal +12 V to +15 V)", 21 RA "Application resistor. RA = 4 RFB", 22 RB "Application resistor. RB = 2 RFB", 23 RC "Application resistor. RC = 2 RFB", 24 RFB (in) "Feedback resistor in the DAC. For normal operation this is connected to VOUT"

## AD7845JP-REEL
designator U?
Single 12-Bit LC2MOS Complete Digital-to-Analog Converter, 0 to +70 degC, P-28, Reel; Generic Part Number: AD7845; Manufacturer: Analog Devices; PartNumber: AD7845JP-REEL; # DAC Outputs: 1; Max V+: 15.75V; Op Pwr Diss: 150mW; Resolution (Bits): 12; Settling Time: 5µs; Single Supply: No; DatasheetVersion: Rev.B; PackageVersion: 042508-A; PackageReference: P-28; PackageDescription: 28-Lead Plastic Leaded Chip Carrier [PLCC]; Supplier 1: Mouser; Supplier Part Number 1: N/A; Packing: Reel; RoHS: N; Mounting Technology: Surface Mount; Code_JEDEC: MO-047-AB; ComponentLink1Description: Manufacturer URL; ComponentLink1URL: http://www.analog.com/en/index.html; ComponentLink2Description: Datasheet; ComponentLink2URL: http://www.analog.com/static/imported-files/data_sheets/AD7845.pdf; ComponentLink3Description: Package Specification; ComponentLink3URL: http://www.analog.com/static/imported-files/packages/PKG_PDF/PLCC(P)/P_28.pdf; ComponentLink4Description: Product URL; ComponentLink4URL: http://www.analog.com/en/digital-to-analog-converters/da-converters/ad7845/products/product.html
footprint P-28_N (Leaded Chip Carrier, 28-Leads, Body 11.5x11.5mm, Pitch 1.27mm, IPC Medium Density)
footprint P-28_L (Leaded Chip Carrier, 28-Leads, Body 11.5x11.5mm, Pitch 1.27mm, IPC High Density)
footprint P-28_M (Leaded Chip Carrier, 28-Leads, Body 11.5x11.5mm, Pitch 1.27mm, IPC Low Density)
pins: 1 NC "No Connect", 2 VOUT (out) "Voltage Output Terminal", 3 DB11 (in) "Data Bit 11 (MSB)", 4 DB10 (in) "Data Bit 10", 5 DB9 (in) "Data Bit 9", 6 DB8 (in) "Data Bit 8", 7 DB7 (in) "Data Bit 7", 8 NC "No Connect", 9 DB6 (in) "Data Bit 6", 10 DB5 (in) "Data Bit 5", 11 DB4 (in) "Data Bit 4", 12 DB3 (in) "Data Bit 3", 13 DB2 (in) "Data Bit 2", 14 DGND (power) "Digital Ground. The metal lid on the ceramic package is connected to this pin", 15 NC "No Connect", 16 DB1 (in) "Data Bit 1", 17 DB0 (in) "Data Bit 0 (LSB)", 18 ~{WR} (in) "Write Input. Active low", 19 ~{CS} (in) "Chip Select Input. Active low", 20 VREF (in) "Reference Input Voltage which can be an ac or dc signal", 21 AGND (power) "Analog Ground. This is the reference point for external analog circuitry", 22 NC "No Connect", 23 VSS (power) "Negative power supply for the output amplifier (nominal -12 V to +15 V)", 24 VDD (power) "Positive power supply (nominal +12 V to +15 V)", 25 RA "Application resistor. RA = 4 RFB", 26 RB "Application resistor. RB = 2 RFB", 27 RC "Application resistor. RC = 2 RFB", 28 RFB (in) "Feedback resistor in the DAC. For normal operation this is connected to VOUT"